# Altium footprint library Components.PcbLib: 66 footprints (part 5 of 5)
Each footprint in its own frame and in the unit in brackets; x right, y up, seen from the top. Pads: shape width x height; smd on the part's side, far side on the other; paste and mask are expansions set on the pad; w line width, h text height; cw(c..) or ccw(c..) is an arc to the next point about the centre after c.
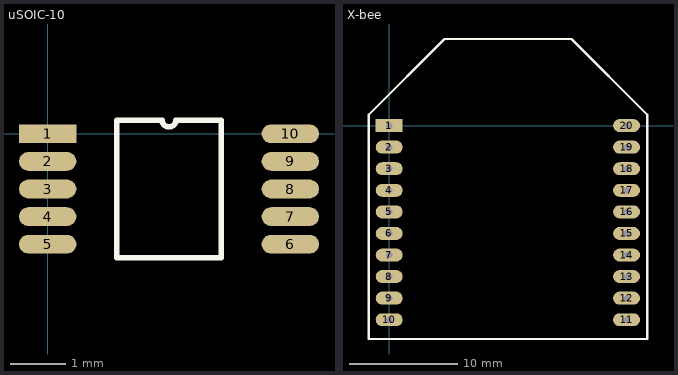
[diagram p4: the footprints below, top view; thin cyan lines are the x and y axes]

## uSOIC-10 [mm]
pads (10):
  rect 1.04x0.34 smd: 1(0,0)
  oval 1.04x0.34 smd: 2(0,-0.5) 3(0,-1) 4(0,-1.5) 5(0,-2) 6(4.4,-2) 7(4.4,-1.5) 8(4.4,-1) 9(4.4,-0.5) 10(4.4,0)
Top Overlay:
  lines w0.1: 1.255,-2.25 1.255,0.25 2.075,0.25 ccw(c2.2,0.25) 2.325,0.25 3.145,0.25 3.145,-2.25 1.255,-2.25
3D body: height 0.94, standoff 0, extent 1.219,-2.286 3.175,0.279

## X-bee [mm]
pads (20):
  rect 2.5x1.2 hole 0.6: 1(0,0)
  oval 2.5x1.2 hole 0.6: 2(0,-2) 3(0,-4) 4(0,-6) 5(0,-8) 6(0,-10) 7(0,-12) 8(0,-14) 9(0,-16) 10(0,-18) 11(22,-18) 12(22,-16) 13(22,-14) 14(22,-12) 15(22,-10) 16(22,-8) 17(22,-6) 18(22,-4) 19(22,-2) 20(22,0)
Top Overlay:
  lines w0.2: -1.905,-19.787 23.927,-19.787 23.927,1 23.917,1 16.891,8.026 5.131,8.026 -1.896,1 -1.905,1 -1.905,-19.787